# Altium schematic symbol library PCA9508DP,118.SchLib: 1 symbol
Pins are listed as number, name and electrical type; pins without a type are passive.

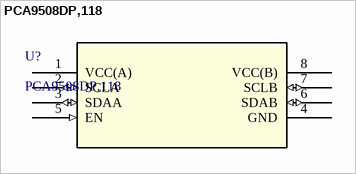
[diagram p0: symbol PCA9508DP,118]

## PCA9508DP,118
designator U?
No Description Available; Manufacturer_Name: NXP; Copyright: Copyright (C) 2025 Ultra Librarian. All rights reserved.; Manufacturer_Part_Number: PCA9508DP,118; RefDes: RefDes; Type: Type
footprint TSSOP8_SOT505-1_NXP
pins: 1 VCC(A) (power), 2 SCLA (io), 3 SDAA (io), 4 GND (power), 5 EN (in), 6 SDAB (io), 7 SCLB (io), 8 VCC(B) (power)